# EAGLE library part DRV8825 (library hi-link)
DRV8825 Stepper Motor Driver Carrier, High Current This breakout board for TI’s DRV8825 microstepping bipolar stepper motor driver features adjustable current limiting, over-current and over-temperature protection, and six microstep resolutions (down to 1/32-step). It operates from 8.2 V to 45 V and can deliver up to approximately 1.5 A per phase without a heat sink or forced air flow (rated for up to 2.2 A per coil with sufficient additional cooling). The driver has a pinout and interface that are nearly identical to those of our A4988 stepper motor driver carriers, so it can be used as a higher-performance drop-in replacement for those boards in many applications. This board ships with 0.1″ male header pins included but not soldered in. Dimensions Size: 0.6″ × 0.8″ Weight: 1.6 g General specifications Minimum operating voltage: 8.2 V Maximum operating voltage: 45 V Continuous current per phase: 1.5 A Maximum current per phase: 2.2 A Minimum logic voltage: 2.5 V Maximum logic voltage: 5.25 V Microstep resolutions: full, 1/2, 1/4, 1/8, 1/16, and 1/32 Reverse voltage protection?: N Bulk packaged?: N Header pins soldered?: N
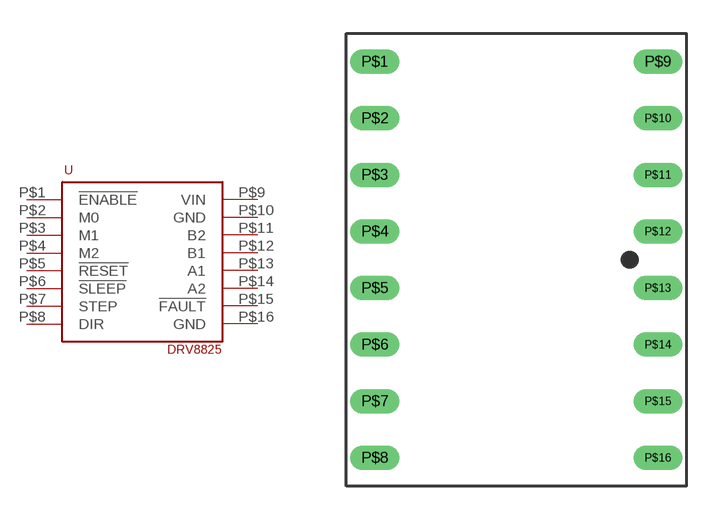
[diagram p2: symbol with the pads of DRV8825; footprint DRV8825]

Designator prefix -

## DRV8825  [DRV8825]
P$1  !ENABLE
P$2  M0
P$3  M1
P$4  M2
P$5  !RESET
P$6  !SLEEP
P$7  STEP
P$8  DIR
P$9  VIN
P$10  GND
P$11  B2
P$12  B1
P$13  A1
P$14  A2
P$15  !FAULT
P$16  GND

## Footprint DRV8825 (pad centres in mm)
https://www.pololu.com/file/0J1075/drv8825-stepper-motor-driver-carrier-high-current-dimension-diagram.pdf
drill 0.6 long: P$1 -6.35,6.35; P$2 -6.35,3.81; P$3 -6.35,1.27; P$4 -6.35,-1.27; P$5 -6.35,-3.81; P$6 -6.35,-6.35; P$7 -6.35,-8.89; P$8 -6.35,-11.43; P$9 6.35,6.35; P$10 6.35,3.81; P$11 6.35,1.27; P$12 6.35,-1.27; P$13 6.35,-3.81; P$14 6.35,-6.35; P$15 6.35,-8.89; P$16 6.35,-11.43